# Altium footprint library EMI_Coil_Inductor.PcbLib: 3 footprints
Each footprint in its own frame and in the unit in brackets; x right, y up, seen from the top. Pads: shape width x height; smd on the part's side, far side on the other; paste and mask are expansions set on the pad; w line width, h text height; cw(c..) or ccw(c..) is an arc to the next point about the centre after c.
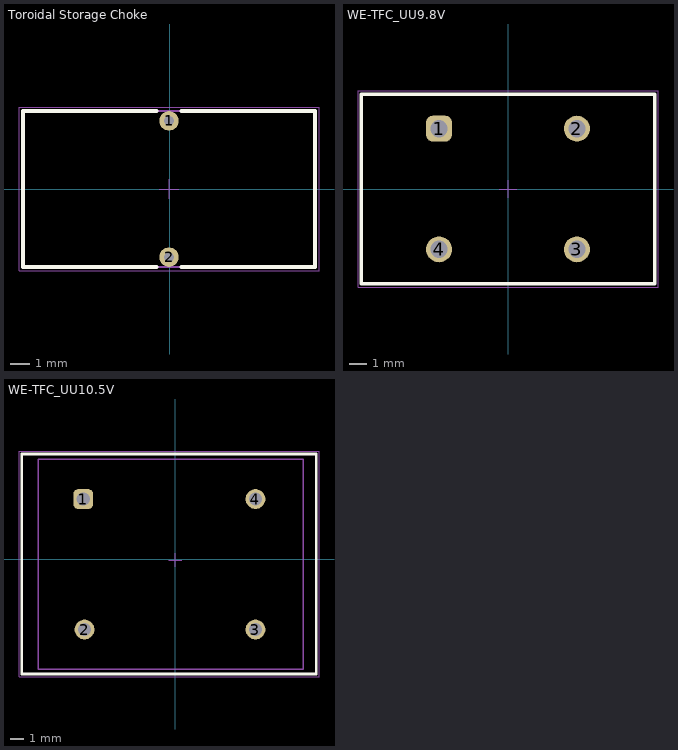
[diagram p0: the footprints below, top view; thin cyan lines are the x and y axes]

## Toroidal Storage Choke [mm]
pads (2):
  round 1 hole 0.5: 1(-0.05,3.5) 2(-0.05,-3.5)
Top Overlay:
  lines w0.2: -0.7,-4 -7.55,-4 -7.55,4 -0.7,4 ; 0.6,-4 7.45,-4 7.45,4 0.6,4
Top Designator:
  text ".Designator" at -7.548,-0.5 h1.5
Top Component Outline:
  lines w0.1: -7.55,-4 -7.55,4 7.45,4 7.45,-4 -7.55,-4
Top 3D Body:
  lines w0.1: -7.55,-4 7.45,-4 7.45,4 -7.55,4 -7.55,-4
Top Courtyard:
  lines w0.05: -0.55,0 0.45,0 ; -0.05,-0.5 -0.05,0.5 ; -7.75,-4.2 -7.75,4.2 7.65,4.2 7.65,-4.2 -7.75,-4.2
3D body "744102.stp": height 13.46, standoff -11.96, extent -6.81,-3.65 6.709,3.65

## WE-TFC_UU9.8V [mm] "Common Mode Power Line Choke, THT, 4-leads, body 17x11.5mm"
height 17
pads (4):
  rrect50% 1.5x1.5 hole 1: 1(-4,3.5)
  round 1.5 hole 1: 2(4,3.5) 3(4,-3.5) 4(-4,-3.5)
Top Overlay:
  lines w0.2: -8.5,-5.5 8.5,-5.5 8.5,5.5 -8.5,5.5 -8.5,-5.5
Top Assembly:
  lines w0.1: -8.5,-5.5 -8.5,5.5 8.5,5.5 8.5,-5.5 -8.5,-5.5
Top 3D Body:
  lines w0.1: -8.5,-5.5 8.5,-5.5 8.5,5.5 -8.5,5.5 -8.5,-5.5
Top Courtyard:
  lines w0.05: -0.5,0 0.5,0 ; 0,-0.5 0,0.5 ; -8.7,-5.7 -8.7,5.7 8.7,5.7 8.7,-5.7 -8.7,-5.7
3D body "User Library-UF9_8.step": height 15.3, standoff -3, extent -8.107,-5.3 8.05,5.3

## WE-TFC_UU10.5V [mm]
pads (4):
  rrect50% 1.5x1.5 hole 1: 1(-6.95,4.55)
  round 1.5 hole 1: 2(-6.85,-5.3) 3(6.05,-5.3) 4(6.05,4.55)
Top Overlay:
  lines w0.2: -11.6,-8.65 -11.6,7.95 10.65,7.95 10.65,-8.65 -11.6,-8.65
Top Assembly:
  lines w0.1: -10.35,-8.3 9.65,-8.3 9.65,7.55 -10.35,7.55 -10.35,-8.3
Top 3D Body:
  lines w0.1: -11.6,-8.65 10.65,-8.65 10.65,7.95 -11.6,7.95 -11.6,-8.65
Top Courtyard:
  lines w0.05: -0.5,-0.051 0.5,-0.051 ; 0,-0.551 0,0.449 ; -11.8,-8.85 10.85,-8.85 10.85,8.15 -11.8,8.15 -11.8,-8.85
3D body "User Library-UU10_5.step": height 23.48, standoff -2.5, extent -11.35,-8.35 10.444,7.65